# Altium footprint library 39-01-2100.PcbLib: 1 footprints
Each footprint in its own frame and in the unit in brackets; x right, y up, seen from the top. Pads: shape width x height; smd on the part's side, far side on the other; paste and mask are expansions set on the pad; w line width, h text height; cw(c..) or ccw(c..) is an arc to the next point about the centre after c.
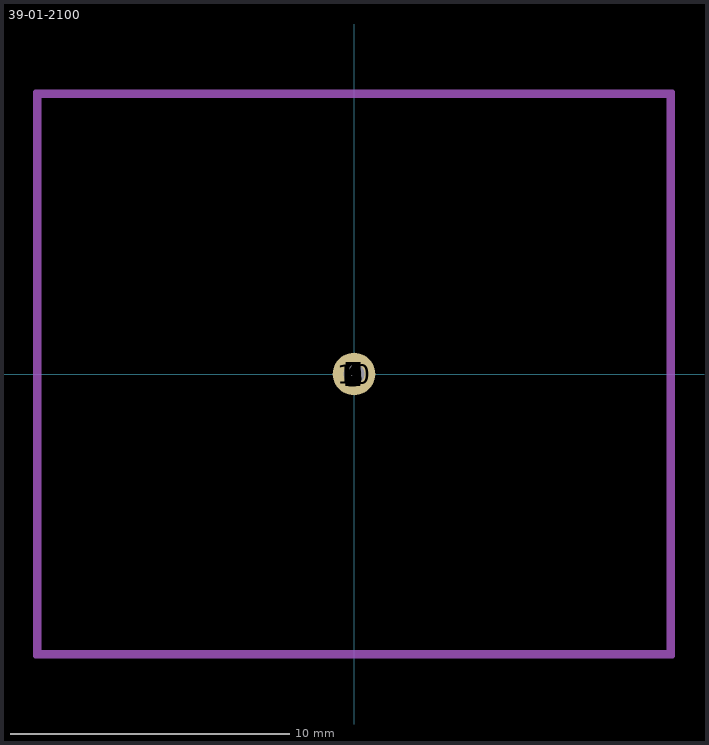
[diagram p0: the footprint, top view; thin cyan lines are the x and y axes]

## 39-01-2100 [mil]
pads (10):
  round 60 hole 30: 1(0,0) 2(0,0) 3(0,0) 4(0,0) 5(0,0) 6(0,0) 7(0,0) 8(0,0) 9(0,0) 10(0,0)
Top Assembly:
  lines w7.87: -448.82,-397.24 448.82,-397.24 448.82,397.24 -448.82,397.24 -448.82,-397.24
Top 3D Body:
  lines w7.87: -444.88,-393.31 444.88,-393.31 444.88,393.31 -444.88,393.31 -444.88,-393.31
Top Courtyard:
  lines w7.87: -448.82,-397.24 448.82,-397.24 448.82,397.24 -448.82,397.24 -448.82,-397.24
Top Component Center:
  lines w3.94: -19.68,0 19.68,0 ; 0,-19.68 0,19.68
3D body "Conn_Molex_39-01-2100_eec.STEP": height 10, standoff 0, extent -448.82,-397.24 448.82,397.24